# Altium footprint library TPD8E003.PcbLib: 1 footprints
Each footprint in its own frame and in the unit in brackets; x right, y up, seen from the top. Pads: shape width x height; smd on the part's side, far side on the other; paste and mask are expansions set on the pad; w line width, h text height; cw(c..) or ccw(c..) is an arc to the next point about the centre after c.
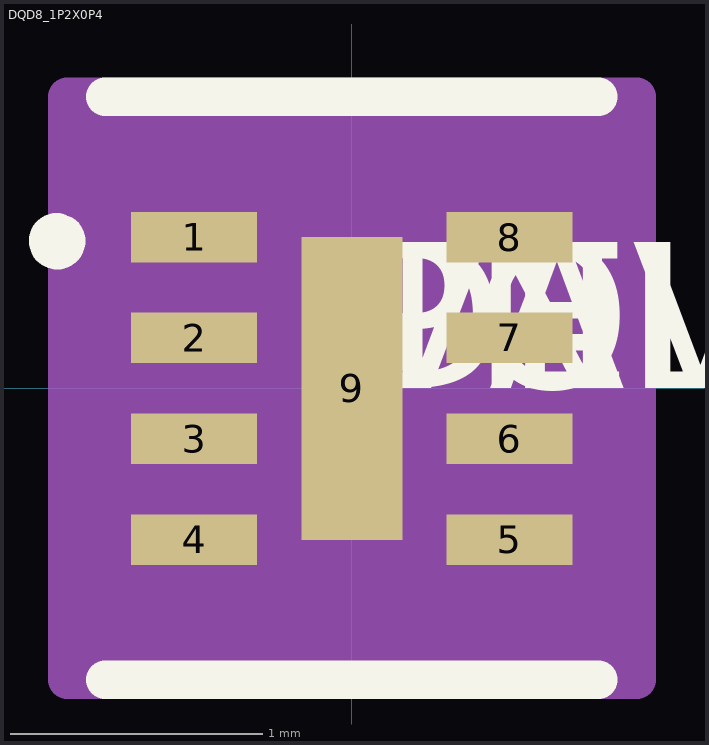
[diagram p0: the footprint, top view; thin cyan lines are the x and y axes]

## DQD8_1P2X0P4 [mm]
pads (9):
  rect 0.5x0.2 smd paste-0.1: 1(-0.625,0.6) 2(-0.625,0.2) 3(-0.625,-0.2) 4(-0.625,-0.6) 5(0.625,-0.6) 6(0.625,-0.2) 7(0.625,0.2) 8(0.625,0.6)
  rect 0.4x1.2 smd paste-0.2: 9(0,0)
Top Layer:
  region: 0,0.6
  region: 0,-0.6
Top Overlay:
  lines w0.152: -1.168,0.62 ccw(c-1.168,0.584) -1.143,0.61 ; -0.978,-1.156 0.978,-1.156 ; -0.978,1.156 0.978,1.156
  text "PN" at 0,0 h1.27
  text "DEV" at 0,0 h1.27
  text "VAL" at 0,0 h1.27
  text "TOL" at 0,0 h1.27
Top Paste:
  region: -0.375,0.7 -0.875,0.7 -0.875,0.5 -0.375,0.5
  region: -0.375,0.3 -0.875,0.3 -0.875,0.1 -0.375,0.1
  region: -0.375,-0.1 -0.875,-0.1 -0.875,-0.3 -0.375,-0.3
  region: -0.375,-0.5 -0.875,-0.5 -0.875,-0.7 -0.375,-0.7
  region: 0.875,-0.5 0.375,-0.5 0.375,-0.7 0.875,-0.7
  region: 0.875,-0.1 0.375,-0.1 0.375,-0.3 0.875,-0.3
  region: 0.875,0.3 0.375,0.3 0.375,0.1 0.875,0.1
  region: 0.875,0.7 0.375,0.7 0.375,0.5 0.875,0.5
  region: 0.152,0.559 -0.152,0.559 -0.152,0.051 0.152,0.051
  region: 0.152,-0.051 -0.152,-0.051 -0.152,-0.559 0.152,-0.559
Top Solder:
  region: -0.325,0.75 -0.925,0.75 -0.925,0.45 -0.325,0.45
  region: -0.325,0.35 -0.925,0.35 -0.925,0.05 -0.325,0.05
  region: -0.325,-0.05 -0.925,-0.05 -0.925,-0.35 -0.325,-0.35
  region: -0.325,-0.45 -0.925,-0.45 -0.925,-0.75 -0.325,-0.75
  region: 0.925,-0.45 0.325,-0.45 0.325,-0.75 0.925,-0.75
  region: 0.925,-0.05 0.325,-0.05 0.325,-0.35 0.925,-0.35
  region: 0.925,0.35 0.325,0.35 0.325,0.05 0.925,0.05
  region: 0.925,0.75 0.325,0.75 0.325,0.45 0.925,0.45
  region: 0.102,0.702 -0.102,0.702 0.102,0.702
  region: 0.102,-0.702 -0.102,-0.702 0.102,-0.702
Mechanical 13:
  circle w0: c-1.177,0.6 r0.076
  lines w0: -0.305,0.902 ccw(c0,0.902) 0.305,0.902
  text "RefDes2" at 0,0 h1.27
Mechanical 15:
  region: 1.129,-1.156 -1.129,-1.156 -1.129,1.156 1.129,1.156
  lines w0.152: -1.129,-1.156 -1.129,1.156 1.129,1.156 1.129,-1.156 -1.129,-1.156
3D body: height 0.25, standoff 0, extent 0,0 0.254,0.254